# Altium footprint library DC005.PcbLib: 1 footprints
Each footprint in its own frame and in the unit in brackets; x right, y up, seen from the top. Pads: shape width x height; smd on the part's side, far side on the other; paste and mask are expansions set on the pad; w line width, h text height; cw(c..) or ccw(c..) is an arc to the next point about the centre after c.
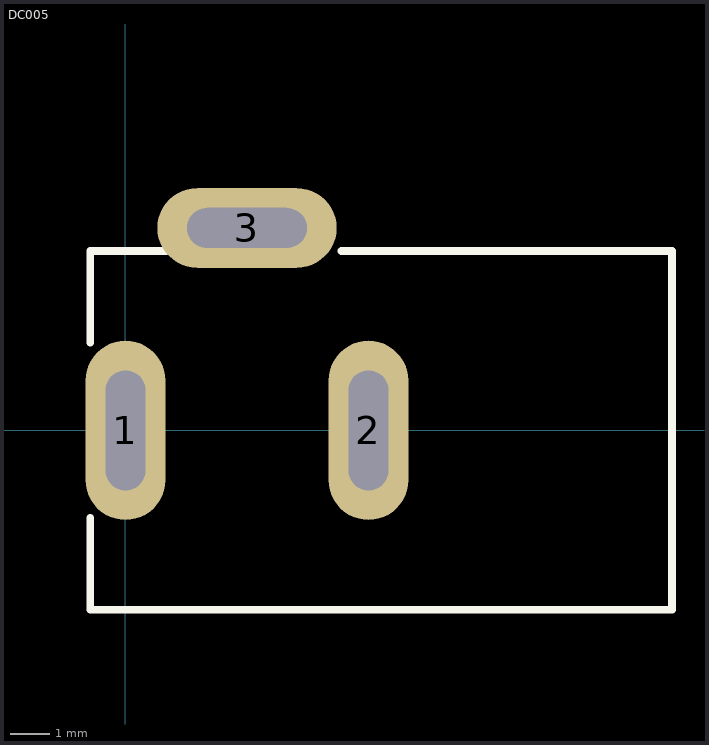
[diagram p0: the footprint, top view; thin cyan lines are the x and y axes]

## DC005 [mm] "电源端子"
pads (3):
  oval 2x4.5 hole 1 slot 3 at 90 deg: 1(0,0) 2(6.096,0)
  oval 4.5x2 hole 1 slot 3 at 0 deg: 3(3.048,5.08)
Top Overlay:
  lines w0.2: -0.884,-2.2 -0.884,-4.5 13.716,-4.5 13.716,4.5 5.416,4.5 ; -0.884,2.2 -0.884,4.5 1.016,4.5
3D body: height 11, standoff 0, extent 1.651,-5.207 16.256,3.683